# EAGLE library part LOGIC-4060 (library tidyeagle)
4060 14-stage Ripple-Carry Binary Counter/Divider with Oscillator Datasheet: Texas Instruments CD4060B <http://www.ti.com/lit/ds/symlink/cd4060b.pdf> Application Notes: Supply: 3V - 18V Oscillator Source Circuit: Actual values may vary. RC Circuit:
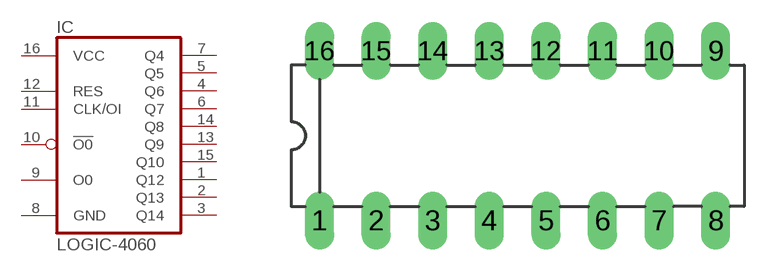
[diagram p23: symbol with the pads of DIL16-3; footprint DIL16-3]

Designator prefix IC

## LOGIC-4060-DIL16  [DIL16-3]
1  Q12  out
2  Q13  out
3  Q14  out
4  Q6  out
5  Q5  out
6  Q7  out
7  Q4  out
8  GND  sup
9  O0  out
10  !O0  out
11  CLK/OI  in
12  RES  in
13  Q9  out
14  Q8  out
15  Q10  out
16  VCC  sup

## Footprint DIL16-3 (pad centres in mm)
drill 0.8 long: 1 -8.89,-3.81; 2 -6.35,-3.81; 3 -3.81,-3.81; 4 -1.27,-3.81; 5 1.27,-3.81; 6 3.81,-3.81; 7 6.35,-3.81; 8 8.89,-3.81; 9 8.89,3.81; 10 6.35,3.81; 11 3.81,3.81; 12 1.27,3.81; 13 -1.27,3.81; 14 -3.81,3.81; 15 -6.35,3.81; 16 -8.89,3.81